# Altium footprint library de0parts.PcbLib: 12 footprints
Each footprint in its own frame and in the unit in brackets; x right, y up, seen from the top. Pads: shape width x height; smd on the part's side, far side on the other; paste and mask are expansions set on the pad; w line width, h text height; cw(c..) or ccw(c..) is an arc to the next point about the centre after c.
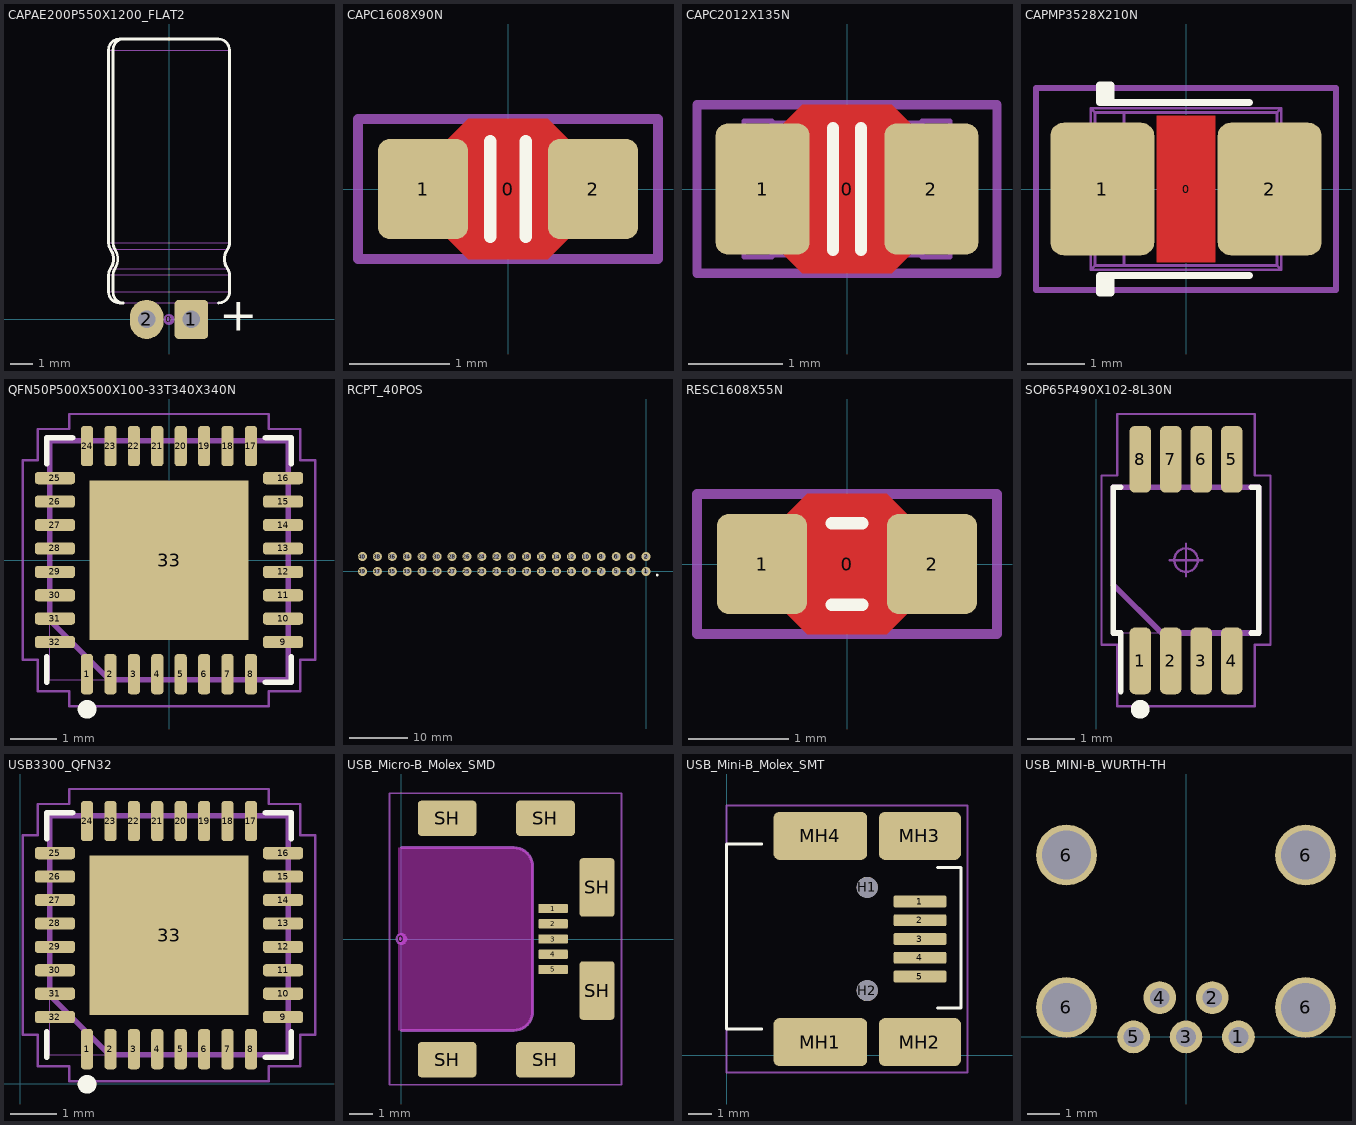
[diagram p0: the footprints below, top view; thin cyan lines are the x and y axes]

## CAPAE200P550X1200_FLAT2 [mil]
height 216.54
pads (3):
  round 20 on Mech15: 0(0,0)
  rrect25% 60x70 hole 31.5: 1(40,0)
  oval 60x70 hole 31.5: 2(-40,0)
Top Overlay:
  lines w5: -82.99,29.57 -88.58,29.57 cw(c-88.58,49.25) -108.27,49.25 -108.27,79.64 cw(c-88.58,79.64) -104.76,90.86 ccw(c-129.92,108.31) -104.76,125.76 cw(c-88.58,136.98) -108.27,136.98 -108.27,482.32 cw(c-88.58,482.32) -88.58,502.01 -82.99,502.01 ; -81.84,29.53 cw(c-81.06,48.53) -100.06,49.25 -100.06,79.64 cw(c-79.2,79.7) -96.81,90.88 ccw(c-124.34,108.31) -96.81,125.74 cw(c-79.2,136.92) -100.06,136.98 -100.06,482.32 cw(c-81.06,483.05) -81.84,502.05 88.58,502.05 cw(c88.58,482.32) 108.31,482.32 108.31,136.98 cw(c88.58,136.98) 104.79,125.74 ccw(c129.92,108.31) 104.79,90.88 cw(c88.58,79.64) 108.31,79.64 108.31,49.25 cw(c88.58,49.25) 88.58,29.53
  text "+" at 90,-20 h60
Mechanical 13:
  lines w1.97: -82.99,29.57 -88.58,29.57 cw(c-88.58,49.25) -108.27,49.25 ; -82.99,502.01 -88.58,502.01 ccw(c-88.58,482.32) -108.27,482.32 ; -49.21,19.68 -29.53,19.68 ; -49.21,29.53 -49.21,0 ccw(c-39.37,0) -29.53,0 -29.53,29.53 ; 29.53,19.68 49.21,19.68 ; 29.53,29.53 29.53,0 ccw(c39.37,0) 49.21,0 49.21,29.53 ; -108.27,49.25 108.31,49.25 ; -108.27,49.25 -108.27,79.64 ; -108.27,79.64 cw(c-88.58,79.64) -104.76,90.86 ; -108.27,79.64 108.31,79.64 ; -108.27,136.98 ccw(c-88.58,136.98) -104.76,125.76 ; -108.27,136.98 108.31,136.98 ; -108.27,136.98 -108.27,482.32 ; -108.27,482.32 108.31,482.32 ; -104.76,90.86 ccw(c-129.92,108.31) -104.76,125.76 ; -104.76,90.86 -96.81,90.88 ; -104.76,125.76 -96.81,125.74 ; -96.81,90.88 ccw(c-124.34,108.31) -96.81,125.74 ; -96.81,90.88 ccw(c-79.2,79.7) -100.06,79.64 -100.06,49.25 ccw(c-81.06,48.53) -81.84,29.53 88.58,29.53 ccw(c88.58,49.25) 108.31,49.25 ; -96.81,90.88 104.79,90.88 ; -96.81,125.74 cw(c-79.2,136.92) -100.06,136.98 -100.06,482.32 cw(c-81.06,483.05) -81.84,502.05 88.58,502.05 cw(c88.58,482.32) 108.31,482.32 ; -96.81,125.74 104.79,125.74 ; 104.79,90.88 cw(c129.92,108.31) 104.79,125.74 ; 104.79,90.88 cw(c88.58,79.64) 108.31,79.64 ; 104.79,125.74 ccw(c88.58,136.98) 108.31,136.98 ; 108.31,49.25 108.31,79.64 ; 108.31,136.98 108.31,482.32
3D body: height 215.69, standoff -70, extent -107.33,-9.82 107.39,502.05

## CAPC1608X90N [mm] "Chip Capacitor, Body 1.6x0.8mm, EIA 0603, IPC Medium Density"
height 0.9
pads (3):
  round 0.254 on Mech15: 0(0,0)
  rrect25% 0.9x1 smd: 1(-0.85,0) 2(0.85,0)
Top Layer:
  pour cut-out: -0.6,0.5 -0.4,0.7 0.4,0.7 0.6,0.5 0.6,-0.5 0.4,-0.7 -0.4,-0.7 -0.6,-0.5
Top Overlay:
  lines w0.127: -0.178,-0.476 -0.178,0.476 ; 0.178,-0.476 0.178,0.476
Mechanical 13:
  lines w0.05: -0.55,-0.43 0.55,-0.43 ; -0.55,0.43 0.55,0.43 ; -0.85,-0.45 -0.55,-0.45 -0.55,0.45 -0.85,0.45 -0.85,-0.45 ; 0.55,-0.45 0.85,-0.45 0.85,0.45 0.55,0.45 0.55,-0.45
Mechanical 15:
  lines w0.1: -1.5,-0.7 1.5,-0.7 1.5,0.7 -1.5,0.7 -1.5,-0.7
3D body: height 0.89, standoff -0.01, extent -0.85,-0.45 0.85,0.45

## CAPC2012X135N [mm] "Chip Capacitor, Body 2.0x1.2mm, EIA 0805, IPC Medium Density"
height 1.35
pads (3):
  round 0.254 on Mech15: 0(0,0)
  rrect25% 1x1.4 smd: 1(-0.9,0) 2(0.9,0)
Top Layer:
  pour cut-out: -0.675,0.7 -0.475,0.9 0.475,0.9 0.675,0.7 0.675,-0.7 0.475,-0.9 -0.475,-0.9 -0.675,-0.7
Top Overlay:
  lines w0.127: -0.15,-0.651 -0.15,0.651 ; 0.15,-0.651 0.15,0.651
Mechanical 13:
  lines w0.05: -0.8,-0.705 0.8,-0.705 ; -0.8,0.705 0.8,0.705 ; -1.1,-0.725 -0.8,-0.725 -0.8,0.725 -1.1,0.725 -1.1,-0.725 ; 0.8,-0.725 0.8,0.725 1.1,0.725 1.1,-0.725 0.8,-0.725
Mechanical 15:
  lines w0.1: -1.6,-0.9 1.6,-0.9 1.6,0.9 -1.6,0.9 -1.6,-0.9
3D body: height 1.34, standoff -0.01, extent -1.1,-0.725 1.1,0.725

## CAPMP3528X210N [mm] "Molded body capacitor, Body 3.5x2.8mm, 1210, IPC Nominal settings"
height 2.1
pads (3):
  round 0.254 on Mech15: 0(0,0)
  rrect25% 1.8x2.3 smd: 1(-1.45,0) 2(1.45,0)
Top Layer:
  pour cut-out: -0.508,1.27 0.508,1.27 0.508,-1.27 -0.508,-1.27
Top Overlay:
  lines w0.127: -1.4,-1.8 -1.4,-1.5 ; -1.4,1.5 -1.4,1.8 ; -1.3,-1.5 -1.3,-1.8 -1.5,-1.8 -1.5,-1.5 1.1,-1.5 ; -1.3,1.5 -1.3,1.8 -1.5,1.8 -1.5,1.5 1.1,1.5
Mechanical 13:
  lines w0.05: -1.75,-0.55 -1.65,-0.55 ; -1.75,0.55 -1.65,0.55 ; -1.65,-1.1 -1.75,-1.1 -1.75,1.1 -1.65,1.1 ; -1.077,-1.327 -1.077,1.327 ; 1.65,-1.1 1.75,-1.1 1.75,1.1 1.65,1.1 ; 1.65,-0.55 1.75,-0.55 ; 1.65,0.55 1.75,0.55 ; -1.65,-1.4 1.65,-1.4 ; -1.65,-1.4 -1.65,1.4 ; -1.65,-1.4 -1.577,-1.327 ; -1.65,1.4 1.65,1.4 ; -1.65,1.4 -1.577,1.327 ; -1.577,-1.327 1.577,-1.327 ; -1.577,-1.327 -1.577,1.327 ; -1.577,1.327 1.577,1.327 ; 1.577,-1.327 1.65,-1.4 ; 1.577,-1.327 1.577,1.327 ; 1.577,1.327 1.65,1.4 ; 1.65,-1.4 1.65,1.4
Mechanical 15:
  lines w0.1: -2.6,-1.75 2.6,-1.75 2.6,1.75 -2.6,1.75 -2.6,-1.75
3D body: height 2.1, standoff 0, extent -1.75,-1.4 1.75,1.4

## QFN50P500X500X100-33T340X340N [mm] "Quad Flat No-Lead (QFN with Tab), 0.50 mm pitch;square,8 pin X 8 pin,5.00 mm L X 5.00 mm W X 1.00 mm H body"
height 1
pads (33):
  rrect54% 0.26x0.86 smd: 1(-1.75,-2.435) 2(-1.25,-2.435) 3(-0.75,-2.435) 4(-0.25,-2.435) 5(0.25,-2.435) 6(0.75,-2.435) 7(1.25,-2.435) 8(1.75,-2.435) 17(1.75,2.435) 18(1.25,2.435) 19(0.75,2.435) 20(0.25,2.435) 21(-0.25,2.435) 22(-0.75,2.435) 23(-1.25,2.435) 24(-1.75,2.435)
  rrect54% 0.86x0.26 smd: 9(2.435,-1.75) 10(2.435,-1.25) 11(2.435,-0.75) 12(2.435,-0.25) 13(2.435,0.25) 14(2.435,0.75) 15(2.435,1.25) 16(2.435,1.75) 25(-2.435,1.75) 26(-2.435,1.25) 27(-2.435,0.75) 28(-2.435,0.25) 29(-2.435,-0.25) 30(-2.435,-0.75) 31(-2.435,-1.25) 32(-2.435,-1.75)
  rect 3.4x3.4 smd paste-3.4 mask+0: 33(0,0)
Top Overlay:
  circle w0.2: c-1.75,-3.185 r0.1
  lines w0.12: -2.61,-2.61 -2.61,-2.06 ; -2.61,2.06 -2.61,2.61 -2.06,2.61 ; 2.06,-2.61 2.61,-2.61 2.61,-2.06 ; 2.06,2.61 2.61,2.61 2.61,2.06
Top Paste:
  region: -0.165,0.165 -1.365,0.165 -1.365,1.365 -0.165,1.365
  region: -0.165,-1.365 -1.365,-1.365 -1.365,-0.165 -0.165,-0.165
  region: 1.365,0.165 0.165,0.165 0.165,1.365 1.365,1.365
  region: 1.365,-1.365 0.165,-1.365 0.165,-0.165 1.365,-0.165
Mechanical 11:
  lines w0.12: -2.55,-1.28 -2.55,2.55 2.55,2.55 2.55,-2.55 -1.28,-2.55 -2.55,-1.28
Mechanical 13:
  lines w0.001: -2.55,-2.55 2.55,-2.55 2.55,2.55 -2.55,2.55 -2.55,-2.55
Mechanical 15:
  circle w0.05: c0,0 r0.25
  lines w0.05: -0.35,0 0.35,0 ; 0,-0.35 0,0.35 ; -3.12,-2.13 -2.8,-2.13 -2.8,-2.8 -2.13,-2.8 -2.13,-3.12 2.13,-3.12 2.13,-2.8 2.8,-2.8 2.8,-2.13 3.12,-2.13 3.12,2.13 2.8,2.13 2.8,2.8 2.13,2.8 2.13,3.12 -2.13,3.12 -2.13,2.8 -2.8,2.8 -2.8,2.13 -3.12,2.13 -3.12,-2.13
3D body: height 0.65, standoff 0, extent -1.778,-1.778 1.778,1.778

## RCPT_40POS [mil] "CONN RCPT 40POS"
pads (40):
  round 60 hole 35.43: 1(0,0) 2(0,100) 3(-100,0) 4(-100,100) 5(-200,0) 6(-200,100) 7(-300,0) 8(-300,100) 9(-400,0) 10(-400,100) 11(-500,0) 12(-500,100) 13(-600,0) 14(-600,100) 15(-700,0) 16(-700,100) 17(-800,0) 18(-800,100) 19(-900,0) 20(-900,100) 21(-1000,0) 22(-1000,100) 23(-1100,0) 24(-1100,100) 25(-1200,0) 26(-1200,100) 27(-1300,0) 28(-1300,100) 29(-1400,0) 30(-1400,100) 31(-1500,0) 32(-1500,100) 33(-1600,0) 34(-1600,100) 35(-1700,0) 36(-1700,100) 37(-1800,0) 38(-1800,100) 39(-1900,0) 40(-1900,100)
Top Overlay:
  circle w10: c75,-25 r5
3D body: height 275.59, standoff -118.11, extent -1949.99,-49.6 50.01,149.61

## RESC1608X55N [mm] "Chip Resistor, Body 1.6x0.8mm, EIA 0603, IPC Medium Density"
height 0.55
pads (3):
  round 0.254 on Mech15: 0(0,0)
  rrect25% 0.9x1 smd: 1(-0.85,0) 2(0.85,0)
Top Layer:
  pour cut-out: -0.6,0.5 -0.4,0.7 0.4,0.7 0.6,0.5 0.6,-0.5 0.4,-0.7 -0.4,-0.7 -0.6,-0.5
Top Overlay:
  lines w0.127: -0.152,-0.406 0.152,-0.406 ; -0.152,0.406 0.152,0.406
Mechanical 13:
  lines w0.05: -0.875,-0.475 -0.475,-0.475 -0.475,0.475 -0.875,0.475 -0.875,-0.475 ; -0.475,-0.474 0.475,-0.474 -0.475,-0.474 ; -0.475,0.474 0.475,0.474 -0.475,0.474 ; 0.475,-0.475 0.475,0.475 0.875,0.475 0.875,-0.475 0.475,-0.475
Mechanical 15:
  lines w0.1: -1.5,-0.7 -1.5,0.7 1.5,0.7 1.5,-0.7 -1.5,-0.7
3D body: height 0.54, standoff -0.01, extent -0.875,-0.475 0.875,0.475

## SOP65P490X102-8L30N [mm] "Small Outline Pkg (SOP), 0.65 mm pitch;8 pin,3.00 mm L X 3.00 mm W X 1.02 mm H body"
height 1.02
pads (8):
  rrect52% 0.46x1.42 smd: 1(0.93,1.665) 2(1.58,1.665) 3(2.23,1.665) 4(2.88,1.665) 5(2.88,5.955) 6(2.23,5.955) 7(1.58,5.955) 8(0.93,5.955)
Top Overlay:
  circle w0.2: c0.93,0.635 r0.1
  lines w0.12: 0.52,1.015 0.52,2.26 0.355,2.26 0.355,5.36 0.52,5.36 ; 3.29,2.26 3.455,2.26 3.455,5.36 3.29,5.36
Mechanical 11:
  lines w0.12: 0.355,3.293 0.355,5.36 3.455,5.36 3.455,2.26 1.388,2.26 0.355,3.293
Mechanical 13:
  lines w0.001: 0.355,2.26 3.455,2.26 3.455,5.36 0.355,5.36 0.355,2.26
Mechanical 15:
  circle w0.05: c1.905,3.81 r0.25
  lines w0.05: 1.555,3.81 2.255,3.81 ; 1.905,3.46 1.905,4.16 ; 0.105,2.01 0.105,5.61 0.445,5.61 0.445,6.92 3.365,6.92 3.365,5.61 3.705,5.61 3.705,2.01 3.365,2.01 3.365,0.7 0.445,0.7 0.445,2.01 0.105,2.01
3D body: height 0.65, standoff 0, extent 0.432,2.337 3.378,5.283

## USB3300_QFN32 [mm]
pads (33):
  rrect54% 0.26x0.86 smd: 1(1.425,0.74) 2(1.925,0.74) 3(2.425,0.74) 4(2.925,0.74) 5(3.425,0.74) 6(3.925,0.74) 7(4.425,0.74) 8(4.925,0.74) 17(4.925,5.61) 18(4.425,5.61) 19(3.925,5.61) 20(3.425,5.61) 21(2.925,5.61) 22(2.425,5.61) 23(1.925,5.61) 24(1.425,5.61)
  rrect54% 0.86x0.26 smd: 9(5.61,1.425) 10(5.61,1.925) 11(5.61,2.425) 12(5.61,2.925) 13(5.61,3.425) 14(5.61,3.925) 15(5.61,4.425) 16(5.61,4.925) 25(0.74,4.925) 26(0.74,4.425) 27(0.74,3.925) 28(0.74,3.425) 29(0.74,2.925) 30(0.74,2.425) 31(0.74,1.925) 32(0.74,1.425)
  rect 3.4x3.4 smd paste-3.4 mask+0: 33(3.175,3.175)
Top Overlay:
  circle w0.2: c1.425,-0.01 r0.1
  lines w0.12: 0.565,0.565 0.565,1.115 ; 0.565,5.235 0.565,5.785 1.115,5.785 ; 5.235,0.565 5.785,0.565 5.785,1.115 ; 5.235,5.785 5.785,5.785 5.785,5.235
Top Paste:
  region: 4.54,1.81 3.34,1.81 3.34,3.01 4.54,3.01
  region: 4.54,3.34 3.34,3.34 3.34,4.54 4.54,4.54
  region: 3.01,1.81 1.81,1.81 1.81,3.01 3.01,3.01
  region: 3.01,3.34 1.81,3.34 1.81,4.54 3.01,4.54
Mechanical 11:
  lines w0.12: 0.625,1.895 1.895,0.625 5.725,0.625 5.725,5.725 0.625,5.725 0.625,1.895
Mechanical 13:
  lines w0.001: 0.625,0.625 0.625,5.725 5.725,5.725 5.725,0.625 0.625,0.625
Mechanical 15:
  circle w0.05: c3.175,3.175 r0.25
  lines w0.05: 2.825,3.175 3.525,3.175 ; 3.175,2.825 3.175,3.525 ; 0.055,1.045 0.055,5.305 0.375,5.305 0.375,5.975 1.045,5.975 1.045,6.295 5.305,6.295 5.305,5.975 5.975,5.975 5.975,5.305 6.295,5.305 6.295,1.045 5.975,1.045 5.975,0.375 5.305,0.375 5.305,0.055 1.045,0.055 1.045,0.375 0.375,0.375 0.375,1.045 0.055,1.045
3D body: height 0.65, standoff 0, extent 0.635,0.635 5.715,5.715

## USB_Micro-B_Molex_SMD [mm]
height 1.2
pads (12):
  round 0.508 on Mech15: 0(0,0)
  rrect20% 1.25x0.4 smd: 1(6.475,1.3) 2(6.475,0.65) 3(6.475,0) 4(6.475,-0.65) 5(6.475,-1.3)
  rrect20% 2.5x1.5 smd: SH(1.95,-5.15) SH(1.95,5.15) SH(6.15,-5.15) SH(6.15,5.15)
  rrect20% 1.5x2.5 smd: SH(8.35,-2.2) SH(8.35,2.2)
Top Solder:
  rectangle: 5.842,-1.27 7.112,1.27
Keep-Out Layer:
  board cut-out: -0.127,3.9 4.8,3.907 5.009,3.879 5.203,3.799 5.371,3.671 5.499,3.503 5.579,3.309 5.607,3.1 5.6,3.1 5.607,-3.1 5.579,-3.309 5.499,-3.503 5.371,-3.671 5.203,-3.799 5.009,-3.879 4.8,-3.907 4.8,-3.9 -0.127,-3.9
Mechanical 13:
  lines w0.127: 0,-3.9 4.8,-3.9 ccw(c4.8,-3.1) 5.6,-3.1 5.6,3.1 ccw(c4.8,3.1) 4.8,3.9 0,3.9
Mechanical 15:
  lines w0.076: -0.5,-6.223 -0.5,6.223 9.398,6.223 9.398,-6.223 -0.5,-6.223
3D body: height 4.1, standoff -4.1, extent -21.007,-5.35 3.492,5.35
3D body: height 1.43, standoff -1.52, extent -0.43,-5.5 8.7,5.5

## USB_Mini-B_Molex_SMT [mm]
height 3.95
pads (11):
  rrect25% 2.25x0.5 smd: 1(8.25,6.55) 2(8.25,5.75) 3(8.25,4.95) 4(8.25,4.15) 5(8.25,3.35)
  round 0.9 hole 0.9 unplated: H1(6,7.15) H2(6,2.75)
  rrect25% 4x2.05 smd: MH1(4,0.55) MH4(4,9.35)
  rrect25% 3.5x2.05 smd: MH2(8.25,0.55) MH3(8.25,9.35)
Top Overlay:
  lines w0.127: 1.5,1.1 0,1.1 0,9 1.5,9 ; 9,2 10,2 10,8 9,8
Mechanical 15:
  lines w0.076: 0,-0.75 10.275,-0.75 10.275,10.65 0,10.65 0,-0.75
3D body: height 3.91, standoff -1.04, extent 0.1,0 9.1,9.9

## USB_MINI-B_WURTH-TH [mm]
pads (9):
  round 1 hole 0.6: 1(1.6,0) 2(0.8,1.2) 3(0,0) 4(-0.8,1.2) 5(-1.6,0)
  round 1.856 hole 1.5 mask+0.102: 6(-3.65,0.9) 6(-3.65,5.55) 6(3.65,0.9) 6(3.65,5.55)
3D body: height 4.05, standoff -2.45, extent -4.1,-0.127 4.05,8.698